# Altium footprint library footprint.PcbLib: 25 footprints (part 2 of 2)
Each footprint in its own frame and in the unit in brackets; x right, y up, seen from the top. Pads: shape width x height; smd on the part's side, far side on the other; paste and mask are expansions set on the pad; w line width, h text height; cw(c..) or ccw(c..) is an arc to the next point about the centre after c.
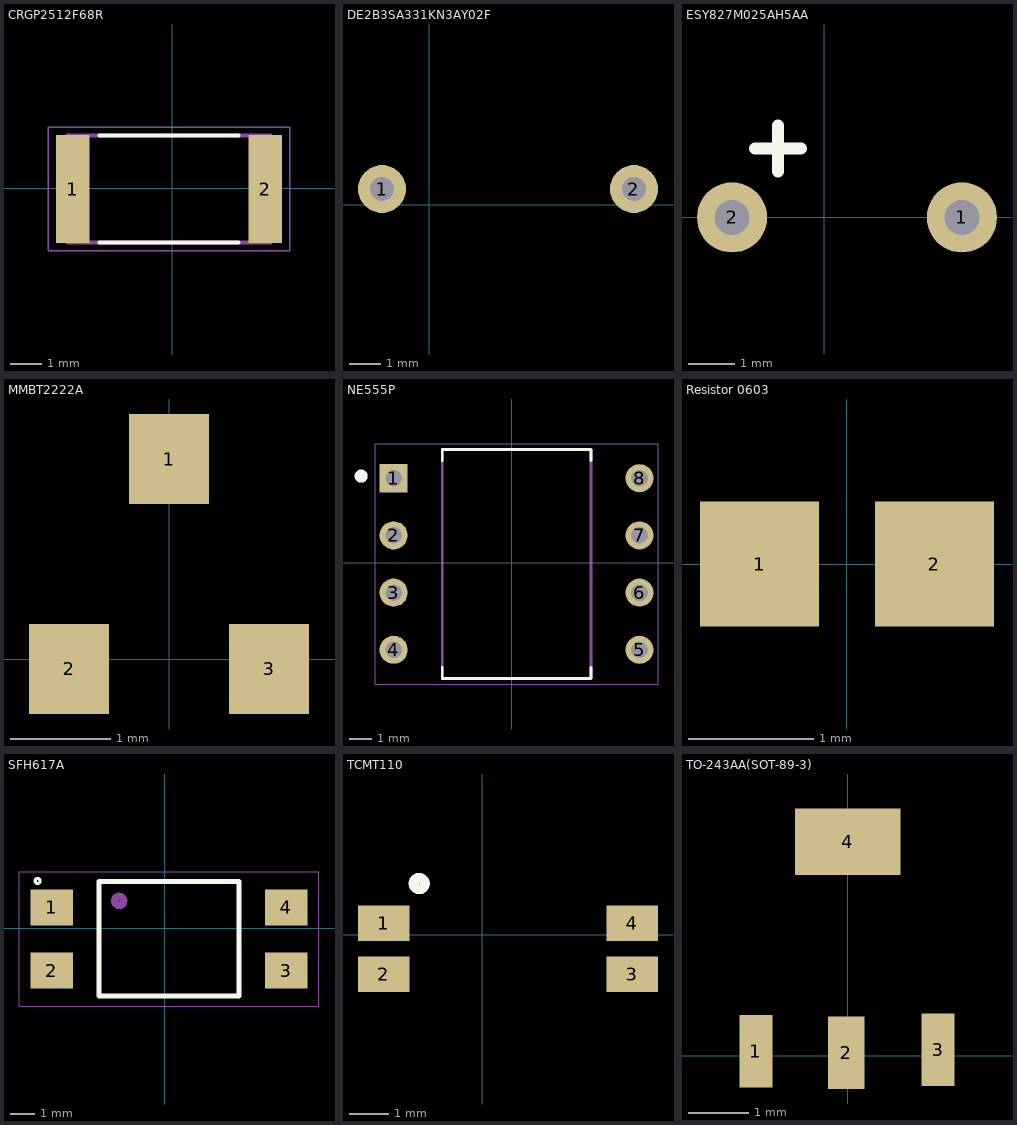
[diagram p1: the footprints below, top view; thin cyan lines are the x and y axes]

## CRGP2512F68R [mm]
pads (2):
  rect 1.07x3.42 smd: 1(-3.152,-0.025) 2(2.958,-0.025)
Top Overlay:
  lines w0.127: -2.297,-1.725 2.103,-1.725 ; -2.297,1.675 2.103,1.675
Mechanical 4:
  lines w0.127: -3.317,-1.725 -3.317,1.675 ; -3.317,-1.725 3.123,-1.725 ; -3.317,-1.725 -3.317,1.675 ; -3.317,-1.725 3.123,-1.725 ; -3.317,1.675 3.123,1.675 ; -3.317,1.675 3.123,1.675 ; 3.123,-1.725 3.123,1.675 ; 3.123,-1.725 3.123,1.675
Mechanical 16:
  lines w0.05: -3.937,-1.983 -3.937,1.933 3.743,1.933 3.743,-1.983 -3.937,-1.983
3D body "CRGP2512F560K--3DModel-STEP-46669.STEP": height 0.66, standoff 0.01, extent -3.3,-1.65 3.05,1.55

## DE2B3SA331KN3AY02F [mil]
pads (2):
  round 60 hole 30: 1(-59.06,19.68) 2(255.91,19.68)

## ESY827M025AH5AA [mil]
pads (2):
  round 60 hole 30: 1(118.11,0) 2(-78.74,0)
Top Overlay:
  lines w10: -39.37,78.74 -39.37,39.37 -39.37,59.06 ; -19.69,59.06 -39.37,59.06 ; -59.05,59.06 -59.05,59.06 ; -59.05,59.06 -39.37,59.06
3D body "ESY827M025AH5AA.step": height 1063.83, standoff -786.9, extent -187,-206.69 227.02,206.7

## MMBT2222A [mm]
pads (3):
  rect 0.8x0.9 smd: 1(0,2) 2(-1,-0.1) 3(1,-0.1)
3D body "CircuitWorks-SOT-23.STEP": height 1.11, standoff 0.01, extent -1.5,-0.35 1.5,2.15
3D body: height 0.25, standoff -34.29, extent 2.3,0.9 2.3,0.9

## NE555P [mm]
pads (8):
  rect 1.248x1.248 hole 0.74: 1(-5.255,3.756)
  round 1.248 hole 0.74: 2(-5.255,1.216) 3(-5.255,-1.324) 4(-5.255,-3.864) 5(5.665,-3.864) 6(5.665,-1.324) 7(5.665,1.216) 8(5.665,3.756)
Top Overlay:
  circle w0.3: c-6.695,3.846 r0.141
  lines w0.127: -3.095,-4.654 -3.095,-5.134 3.505,-5.134 3.505,-4.654 ; -3.095,4.546 -3.095,5.026 3.505,5.026 3.505,4.546
Mechanical 4:
  lines w0.127: -3.095,-5.134 3.505,-5.134 ; -3.095,-5.134 -3.095,5.026 ; -3.095,-5.134 3.505,-5.134 ; -3.095,-5.134 -3.095,5.026 ; -3.095,5.026 3.505,5.026 ; -3.095,5.026 3.505,5.026 ; 3.505,-5.134 3.505,5.026 ; 3.505,-5.134 3.505,5.026
Mechanical 16:
  lines w0.05: -6.075,-5.384 6.485,-5.384 6.485,5.276 -6.075,5.276 -6.075,-5.384
3D body "NE555P.STEP": height 4.58, standoff -3.67, extent -5.261,-4.694 5.661,4.894

## Resistor 0603 [mm]
pads (2):
  rect 0.95x1 smd: 1(-0.7,0) 2(0.7,0)
3D body "Library-Panasonic0603.STEP": height 0.45, standoff 0, extent -0.8,-0.41 0.8,0.41

## SFH617A [mm]
pads (4):
  rect 1.7x1.45 smd: 1(-4.521,0.833) 2(-4.521,-1.707) 3(4.879,-1.707) 4(4.879,0.833)
Top Overlay:
  circle w0.127: c-5.094,1.893 r0.1
  lines w0.2: -2.621,1.853 -2.621,-2.727 2.979,-2.727 2.979,1.853 ; -2.621,1.863 2.979,1.863
Mechanical 4:
  circle w0.3: c-1.824,1.093 r0.18
  circle w0.3: c-1.824,1.093 r0.18
Mechanical 16:
  lines w0.05: -5.841,-3.137 -5.841,2.263 6.199,2.263 6.199,-3.137 -5.841,-3.137
3D body "SFH617A.STEP": height 3.7, standoff 0.01, extent -4.98,-2.79 5.18,1.79

## TCMT110 [mm]
pads (4):
  rect 1.3x0.9 smd: 1(-2.5,0.3) 2(-2.5,-1) 3(3.8,-1) 4(3.8,0.3)
Top Overlay:
  circle w0.254: c-1.6,1.3 r0.141
3D body "User Library-ACPL-217-56DE.STEP": height 2.01, standoff -0.12, extent -2.9,-1.6 4.1,1

## TO-243AA(SOT-89-3) [mm]
pads (4):
  rect 0.55x1.2 smd: 1(-1.524,0.076) 3(1.499,0.102)
  rect 0.6x1.2 smd: 2(-0.025,0.051)
  rect 1.75x1.1 smd: 4(0,3.556)
3D body "SOT89-3.STEP": height 1.55, standoff 0.01, extent -2.265,-0.449 2.235,3.801